# Altium schematic symbol library R 热敏电阻.SchLib: 1 symbol
Pins are listed as number, name and electrical type; pins without a type are passive.

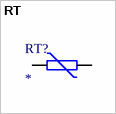
[diagram p0: symbol RT]

## RT
designator RT?
热敏电阻
pins: 1, 2